# Altium schematic symbol library MC14077B.SchLib: 1 symbol
Pins are listed as number, name and electrical type; pins without a type are passive.

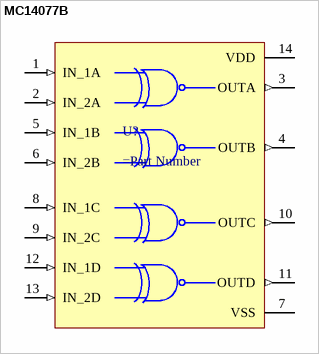
[diagram p0: symbol MC14077B]

## MC14077B
designator U?
=Description
pins: 1 IN_1A (in), 2 IN_2A (in), 3 OUTA (out), 4 OUTB (out), 5 IN_1B (in), 6 IN_2B (in), 7 VSS (power), 8 IN_1C (in), 9 IN_2C (in), 10 OUTC (out), 11 OUTD (out), 12 IN_1D (in), 13 IN_2D (in), 14 VDD (power)